# Altium footprint library Nucleo_Dory_QFN68.PcbLib: 55 footprints (part 3 of 4)
Each footprint in its own frame and in the unit in brackets; x right, y up, seen from the top. Pads: shape width x height; smd on the part's side, far side on the other; paste and mask are expansions set on the pad; w line width, h text height; cw(c..) or ccw(c..) is an arc to the next point about the centre after c.
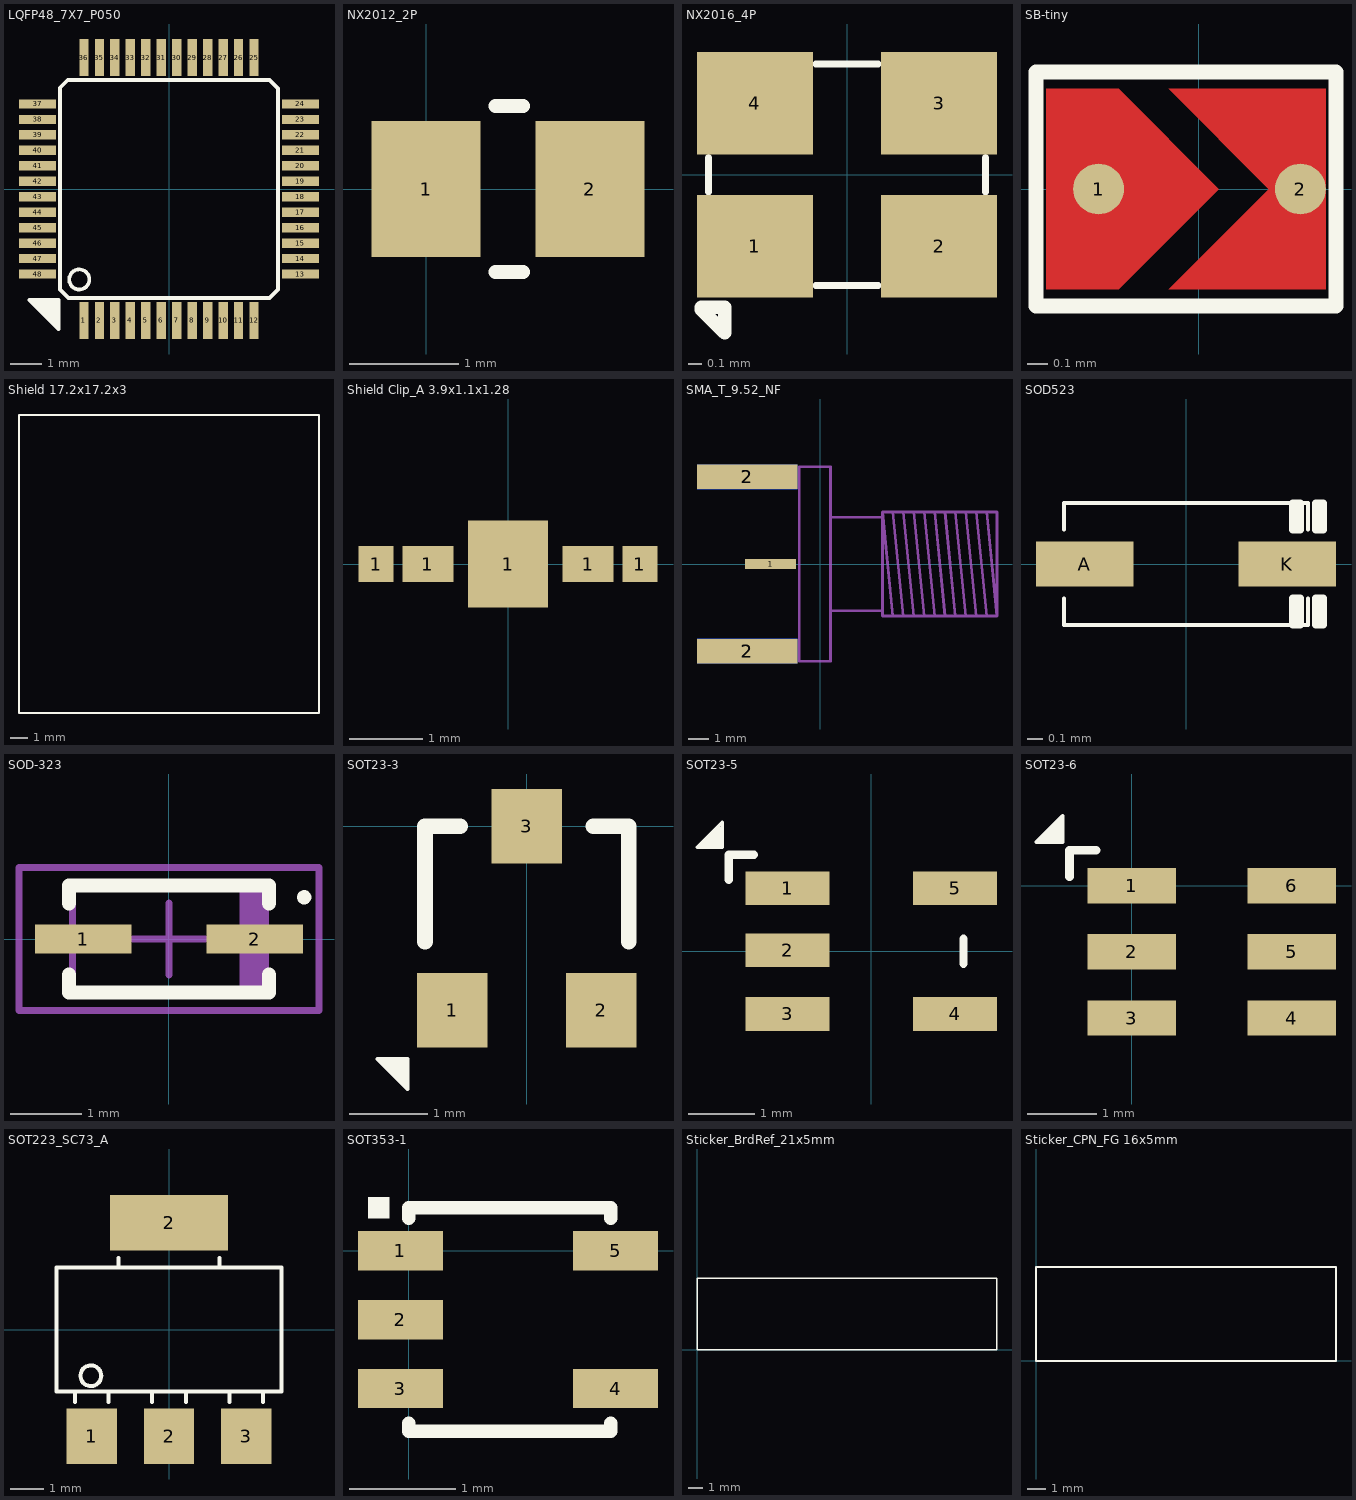
[diagram p2: the footprints below, top view; thin cyan lines are the x and y axes]

## LQFP48_7X7_P050 [mm]
pads (48):
  rect 0.3x1.2 smd mask+0.05: 1(-2.75,-4.25) 2(-2.25,-4.25) 3(-1.75,-4.25) 4(-1.25,-4.25) 5(-0.75,-4.25) 6(-0.25,-4.25) 7(0.25,-4.25) 8(0.75,-4.25) 9(1.25,-4.25) 10(1.75,-4.25) 11(2.25,-4.25) 12(2.75,-4.25) 25(2.75,4.25) 26(2.25,4.25) 27(1.75,4.25) 28(1.25,4.25) 29(0.75,4.25) 30(0.25,4.25) 31(-0.25,4.25) 32(-0.75,4.25) 33(-1.25,4.25) 34(-1.75,4.25) 35(-2.25,4.25) 36(-2.75,4.25)
  rect 1.2x0.3 smd mask+0.05: 13(4.25,-2.75) 14(4.25,-2.25) 15(4.25,-1.75) 16(4.25,-1.25) 17(4.25,-0.75) 18(4.25,-0.25) 19(4.25,0.25) 20(4.25,0.75) 21(4.25,1.25) 22(4.25,1.75) 23(4.25,2.25) 24(4.25,2.75) 37(-4.25,2.75) 38(-4.25,2.25) 39(-4.25,1.75) 40(-4.25,1.25) 41(-4.25,0.75) 42(-4.25,0.25) 43(-4.25,-0.25) 44(-4.25,-0.75) 45(-4.25,-1.25) 46(-4.25,-1.75) 47(-4.25,-2.25) 48(-4.25,-2.75)
Top Overlay:
  circle w0.12: c-2.9,-2.925 r0.326
  lines w0.12: -3.525,-3.25 -3.525,3 -3.525,3.275 -3.275,3.525 -2.95,3.525 2.85,3.525 3.25,3.525 3.525,3.25 3.525,-2.8 3.525,-3.25 3.25,-3.525 -2.775,-3.525 -3.25,-3.525 -3.525,-3.25
  lines w0.127: -4.062,-3.84 -3.576,-4.53 ; -4.516,-3.59 -3.94,-3.962 -3.576,-3.59 ; -4.516,-3.59 -4.312,-3.59 -3.576,-4.327 -3.576,-4.174 -4.16,-3.59 -4.033,-3.59 -3.576,-4.047 -3.576,-3.946 -3.931,-3.59 -3.804,-3.59 -3.576,-3.819 -3.576,-3.59 ; -4.516,-3.59 -3.576,-4.53 ; -4.516,-3.59 -3.576,-3.59 ; -3.576,-4.53 -3.576,-3.59
3D body "LQFP48_7X7_P050.STEP": height 1.6, standoff 0, extent -4.5,-4.5 4.5,4.5
3D body: height 1.6, standoff 0, extent -3.585,-3.585 3.585,3.585

## NX2012_2P [mm]
pads (2):
  rect 1x1.25 smd: 1(0,0) 2(1.5,0)
Top Overlay:
  lines w0.127: 0.635,-0.762 0.889,-0.762 ; 0.635,0.762 0.889,0.762
3D body: height 0.75, standoff 0, extent -0.33,-0.762 1.88,0.762

## NX2016_4P [mm]
pads (4):
  rect 0.85x0.75 smd: 1(-0.675,-0.525) 2(0.675,-0.525) 3(0.675,0.525) 4(-0.675,0.525)
Top Overlay:
  lines w0.05: -1.016,-0.127 -1.016,0.127 ; -0.229,-0.813 0.229,-0.813 ; -0.229,0.813 0.229,0.813 ; 1.016,-0.127 1.016,0.127
  lines w0.1: -1.067,-0.991 -1.067,-0.973 -0.898,-0.973 -0.898,-1.16 -1.067,-0.991
3D body "NX2016SA(NDK).step": height 0.7, standoff 0, extent -1,-0.8 1,0.8

## SB-tiny [mil]
pads (2):
  round 10 smd paste-10 mask+0.04: 1(-19.68,0)
  round 10 smd paste-10.08 mask+0.04: 2(20,0)
Top Layer:
  region: -30,-19.68 -30,19.68 -15.75,19.68 3.94,0 -15.75,-19.68
  region: -5.91,19.68 13.78,0 -5.91,-19.68 25,-19.68 25,19.68
Top Overlay:
  lines w2.95: -32,-23 -32,23 27,23 27,-23 -32,-23
Top Solder:
  region: -30,21.65 25,21.65 25,-21.65 -30,-21.65

## Shield 17.2x17.2x3 [mm]
Top Overlay:
  lines w0.1: 17.805,28.6 35.077,28.6 35.077,45.745 17.805,45.745 17.805,28.6
3D body "shield 17x17x3_version1.STEP": height 3, standoff 0, extent 17.841,28.6 35.041,45.8

## Shield Clip_A 3.9x1.1x1.28 [mm]
pads (5):
  rect 0.48x0.5 smd mask+0.075: 1(-1.81,0) 1(1.81,0)
  rect 0.7x0.5 smd mask+0.075: 1(-1.1,0) 1(1.1,0)
  rect 1.1x1.2 smd mask+0.075: 1(0,0)
3D body "Shield clip s0951-46.stp": height 1.28, standoff 0, extent -1.95,-0.55 1.95,0.55

## SMA_T_9.52_NF [mm]
pads (5):
  rect 2.5x0.5 smd: 1(-2.413,0)
  rect 4.9x1.2 smd: 2(-3.556,-4.25) 2(-3.556,4.25)
  rect 4.9x1.2 smd far side: 2(-3.556,-4.25) 2(-3.556,4.25)
Mechanical 1:
  lines w0.127: -1.016,-4.75 0.508,-4.75 ; -1.016,-4.699 -1.016,4.699 ; -1.016,4.75 0.508,4.75 ; 0.508,-4.699 0.508,4.699 ; 0.508,-2.286 3.048,-2.286 ; 0.508,2.286 3.048,2.286 ; 3.556,-2.54 3.048,2.54 ; 3.556,2.54 4.064,-2.54 ; 4.064,2.54 4.572,-2.54 ; 4.572,2.54 5.08,-2.54 ; 5.08,2.54 5.588,-2.54 ; 5.588,2.54 6.096,-2.54 ; 6.096,2.54 6.604,-2.54 ; 6.604,2.54 7.112,-2.54 ; 7.112,2.54 7.62,-2.54 ; 7.62,2.54 8.128,-2.54 ; 8.128,2.54 8.636,-2.54 ; 3.048,-2.286 3.048,-1.016 3.048,1.016 3.048,2.286 ; 3.048,-2.286 3.048,-2.54 8.636,-2.54 ; 3.048,2.286 3.048,2.54 ; 3.048,2.54 8.636,2.54 8.636,-2.54

## SOD523 [mm]
pads (2):
  rect 0.65x0.3 smd mask+0.05: A(-0.675,0) K(0.675,0)
Top Overlay:
  lines w0.025: -0.813,-0.229 -0.813,-0.406 0.813,-0.406 0.813,-0.229 ; -0.813,0.229 -0.813,0.406 0.813,0.406 0.813,0.229
  lines w0.05: 0.737,-0.406 0.737,-0.254 0.711,-0.229 ; 0.737,0.229 0.737,0.381 0.711,0.406 ; 0.889,-0.406 0.889,-0.254 0.864,-0.229 ; 0.889,0.229 0.889,0.381 0.864,0.406 ; 0.711,-0.229 0.762,-0.229 0.762,-0.406 0.711,-0.406 0.711,-0.229 ; 0.711,0.406 0.762,0.406 0.762,0.229 0.711,0.229 0.711,0.406 ; 0.864,-0.229 0.914,-0.229 0.914,-0.406 0.864,-0.406 0.864,-0.229 ; 0.864,0.406 0.914,0.406 0.914,0.229 0.864,0.229 0.864,0.406
3D body: height 0.62, standoff 0.6, extent 0.635,-0.406 0.787,0.406
3D body: height 0.6, standoff 0, extent -0.813,-0.406 0.813,0.406

## SOD-323 [mm]
pads (2):
  rect 1.35x0.4 smd: 1(-1.2,0) 2(1.2,0)
Top Overlay:
  circle w0.1: c1.893,0.584 r0.05
  lines w0.2: -1.4,-0.5 -1.4,-0.75 1.4,-0.75 1.4,-0.5 ; -1.4,0.5 -1.4,0.75 1.4,0.75 1.4,0.5
Mechanical 13:
  region: 1.35,0.728 0.987,0.728 0.987,-0.722 1.35,-0.722
  lines w0.1: -1.35,-0.725 1.35,-0.725 1.35,0.725 -1.35,0.725 -1.35,-0.725
Mechanical 15:
  lines w0.1: -0.5,0 0.5,0 ; 0,-0.5 0,0.5 ; -2.1,-1 2.1,-1 2.1,1 -2.1,1 -2.1,-1
3D body: height 1.17, standoff 0, extent -1.35,-0.725 1.35,0.725

## SOT23-3 [mm]
pads (3):
  rect 0.9x0.95 smd: 1(-0.95,-2.35) 2(0.95,-2.35) 3(0,0)
Top Overlay:
  lines w0.05: -1.626,-2.997 -1.626,-3.099 -1.6,-3.023 -1.676,-2.997 -1.575,-3.2 -1.575,-3.023 -1.524,-2.997 -1.753,-2.997 -1.549,-3.175 -1.575,-3.251 -1.829,-2.972 -1.549,-3.226 -1.549,-3.302 -1.905,-2.972 ; -1.905,-2.972 -1.524,-2.972 -1.524,-3.353 -1.905,-2.972
  lines w0.2: -1.3,-1.475 -1.3,0 -0.85,0 ; 0.85,0 1.3,0 1.3,-1.475
3D body: height 1.1, standoff 1, extent -1.397,-1.769 -0.899,-1.27
3D body "sot23-3.step": height 1, standoff -0.02, extent -1.46,-2.418 1.46,0.058

## SOT23-5 [mil]
pads (5):
  rect 50x20 smd: 1(-50,37.5) 2(-50,0.5) 3(-50,-37.5) 4(50,-37.5) 5(50,37.5)
Top Overlay:
  lines w1.97: -90,66 -94,66 -91,65 -90,68 -98,64 -91,64 -90,62 -90,71 -97,63 -100,64 -89,74 -99,63 -102,63 -89,77 ; -89,77 -89,62 -104,62 -89,77
  lines w5: -85,42.5 -85,57.5 -70,57.5 ; 55,-7.5 55,7.5
3D body "SOT23-5-2.step": height 57.09, standoff 0, extent -55.11,-57.08 55.12,57.09

## SOT23-6 [mm]
pads (6):
  rect 1.27x0.508 smd: 1(0,0) 2(0,-0.95) 3(0,-1.9) 4(2.3,-1.9) 5(2.3,-0.95) 6(2.3,0)
Top Overlay:
  lines w0.05: -1.016,0.724 -1.118,0.724 -1.041,0.699 -1.016,0.775 -1.219,0.673 -1.041,0.673 -1.016,0.622 -1.016,0.851 -1.194,0.648 -1.27,0.673 -0.991,0.927 -1.245,0.648 -1.321,0.648 -0.991,1.003 ; -0.991,1.003 -1.372,0.622 -0.991,0.622 -0.991,1.003
  lines w0.127: -0.889,0.127 -0.889,0.508 -0.508,0.508
3D body "sot236.step": height 1, standoff 0, extent -0.02,-2.39 2.32,0.53

## SOT223_SC73_A [mm]
pads (4):
  rect 1.5x1.65 smd mask+0.05: 1(-2.3,-3.175) 2(0,-3.175) 3(2.3,-3.175)
  rect 3.5x1.65 smd mask+0.05: 2(0,3.175)
Top Overlay:
  circle w0.12: c-2.325,-1.375 r0.309
  lines w0.12: -2.8,-2.15 -2.8,-1.85 -1.8,-1.85 -1.8,-2.15 ; -1.5,2.125 -1.5,1.85 1.5,1.85 1.5,2.125 ; -0.5,-2.15 -0.5,-1.85 0.5,-1.85 0.5,-2.15 ; 1.8,-2.15 1.8,-1.85 2.8,-1.85 2.8,-2.15 ; -3.35,-1.85 -3.35,1.85 3.35,1.85 3.35,-1.85 -3.35,-1.85
Mechanical 27:
  text "3" at 1.95,-3.4 h0.51
  text "2" at -0.35,-3.375 h0.51
  text "1" at -2.5,-3.35 h0.51
  text "4" at -0.225,2.4 h0.51
3D body "SOT223.STEP": height 1.68, standoff 0, extent -3.25,-3.48 3.25,3.48
3D body: height 1.8, standoff 0, extent -3.349,-1.849 3.349,1.849

## SOT353-1 [mm]
pads (5):
  rect 0.8x0.37 smd mask+0.075: 1(-0.076,0) 2(-0.076,-0.65) 3(-0.076,-1.3) 4(1.951,-1.3) 5(1.951,0)
Top Overlay:
  region: -0.381,0.508 -0.381,0.305 -0.178,0.305 -0.178,0.508
  lines w0.127: 0,-1.626 0,-1.702 0.229,-1.702 1.905,-1.702 ; 0,0.305 0,0.406 1.905,0.406 1.905,0.305 ; 1.905,-1.676 1.905,-1.702 ; 1.905,-1.626 1.905,-1.702
3D body "SOT353-1.step": height 1.1, standoff 0, extent -0.311,-1.735 2.089,0.465

## Sticker_BrdRef_21x5mm [mm]
Top Overlay:
  lines w0.1: 0,0 0,5 21,5 21,0 0,0
3D body: height 0.1, standoff 0, extent 0,0 21,5

## Sticker_CPN_FG 16x5mm [mm]
Top Overlay:
  lines w0.1: 0,0 0,5 16,5 16,0 0,0
3D body: height 0.1, standoff 0, extent 0,0 16,5